# Altium footprint library Resistors.PcbLib: 2 footprints
Each footprint in its own frame and in the unit in brackets; x right, y up, seen from the top. Pads: shape width x height; smd on the part's side, far side on the other; paste and mask are expansions set on the pad; w line width, h text height; cw(c..) or ccw(c..) is an arc to the next point about the centre after c.
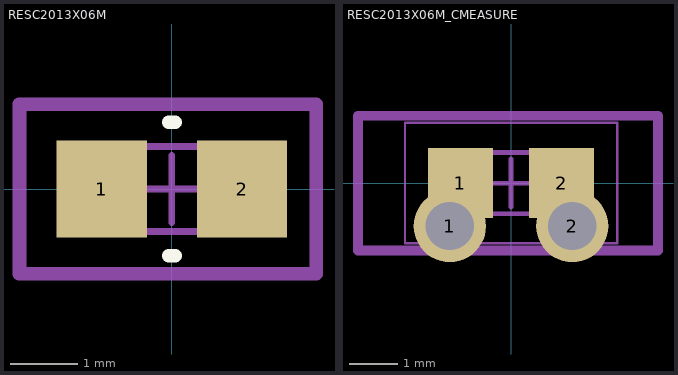
[diagram p0: the footprints below, top view; thin cyan lines are the x and y axes]

## RESC2013X06M [mm] "Chip Resistor, 2-Leads, Body 2,03x1,27mm, IPC Low Density"
height 0.59
pads (2):
  rect 1.35x1.45 smd: 1(-1.05,0) 2(1.05,0)
Top Overlay:
  lines w0.2: -0.05,-1 0.05,-1 ; -0.05,1 0.05,1
Mechanical 13:
  lines w0.1: -1.14,-0.635 -1.14,0.635 1.14,0.635 1.14,-0.635 -1.14,-0.635
Mechanical 15:
  lines w0.05: -2.2,-1.25 -2.2,1.25 2.2,1.25 2.2,-1.25 -2.2,-1.25
  lines w0.1: -0.5,0 0.5,0 ; 0,-0.5 0,0.5
AsmTop:
  lines w0.2: -2.286,-1.27 -2.286,1.27 2.159,1.27 2.159,-1.27 -2.286,-1.27
  text ".Comment" at -2.032,-0.508 h0.8
3D body: height 0.59, standoff 0, extent -0.76,-0.635 0.76,0.635
3D body: height 0.59, standoff 0, extent -1.14,-0.635 -0.76,0.635
3D body: height 0.59, standoff 0, extent 0.76,-0.635 1.14,0.635

## RESC2013X06M_CMEASURE [mm] "Chip Resistor, 2-Leads, Body 2,03x1,27mm, IPC Low Density"
height 0.59
pads (4):
  round 1.5 hole 1: 1(-1.27,-0.889) 2(1.27,-0.889)
  rect 1.35x1.45 smd: 1(-1.05,0) 2(1.05,0)
Mechanical 13:
  lines w0.1: -1.14,-0.635 -1.14,0.635 1.14,0.635 1.14,-0.635 -1.14,-0.635
Mechanical 15:
  lines w0.05: -2.2,-1.25 -2.2,1.25 2.2,1.25 2.2,-1.25 -2.2,-1.25
  lines w0.1: -0.5,0 0.5,0 ; 0,-0.5 0,0.5
AsmTop:
  lines w0.2: -3.175,-1.397 -3.175,1.397 3.048,1.397 3.048,-1.397 -3.175,-1.397
  text ".Comment" at -2.667,-0.508 h0.8
3D body: height 0.59, standoff 0, extent -0.76,-0.635 0.76,0.635
3D body: height 0.59, standoff 0, extent -1.14,-0.635 -0.76,0.635
3D body: height 0.59, standoff 0, extent 0.76,-0.635 1.14,0.635